# Altium footprint library eecs5x.PcbLib: 161 footprints (part 5 of 11)
Each footprint in its own frame and in the unit in brackets; x right, y up, seen from the top. Pads: shape width x height; smd on the part's side, far side on the other; paste and mask are expansions set on the pad; w line width, h text height; cw(c..) or ccw(c..) is an arc to the next point about the centre after c.
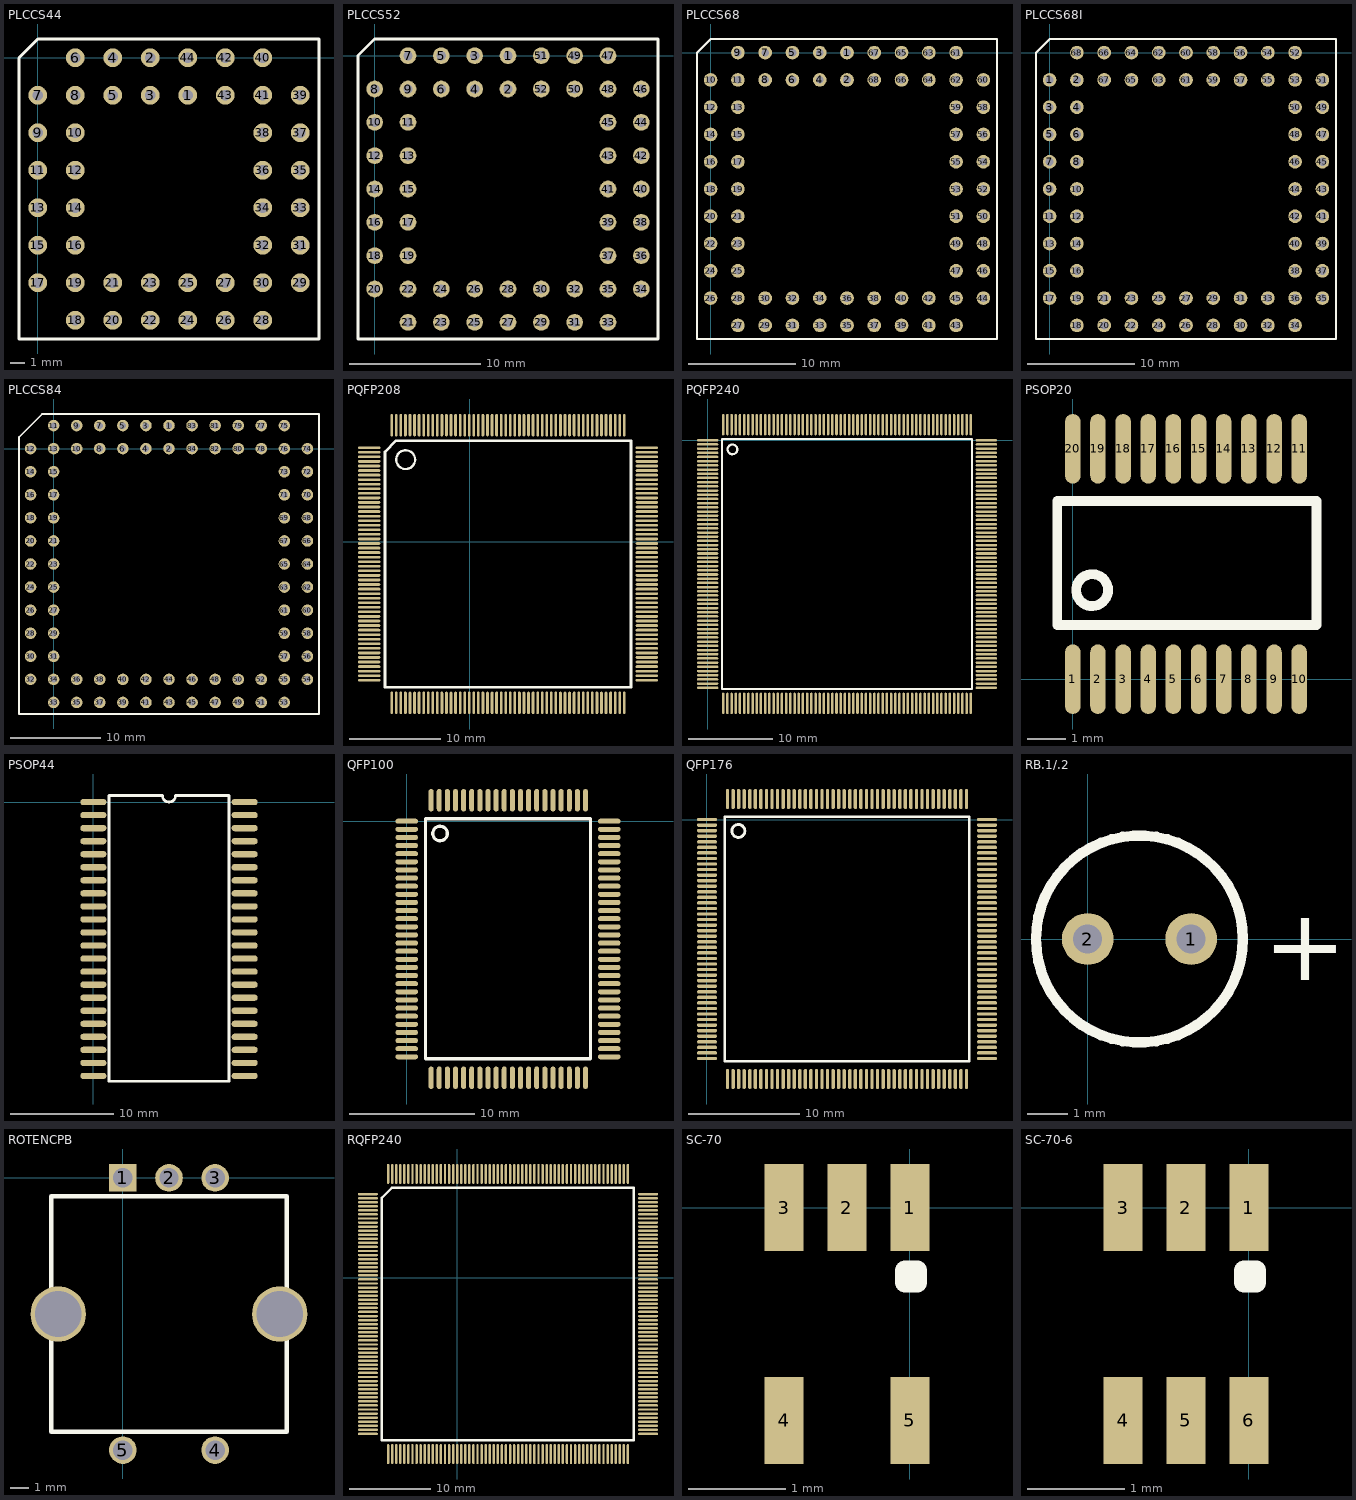
[diagram p4: the footprints below, top view; thin cyan lines are the x and y axes]

## PLCCS44 [mil]
pads (44):
  round 50 hole 28: 1(400,-100) 2(300,0) 3(300,-100) 4(200,0) 5(200,-100) 6(100,0) 7(0,-100) 8(100,-100) 9(0,-200) 10(100,-200) 11(0,-300) 12(100,-300) 13(0,-400) 14(100,-400) 15(0,-500) 16(100,-500) 17(0,-600) 18(100,-700) 19(100,-600) 20(200,-700) 21(200,-600) 22(300,-700) 23(300,-600) 24(400,-700) 25(400,-600) 26(500,-700) 27(500,-600) 28(600,-700) 29(700,-600) 30(600,-600) 31(700,-500) 32(600,-500) 33(700,-400) 34(600,-400) 35(700,-300) 36(600,-300) 37(700,-200) 38(600,-200) 39(700,-100) 40(600,0) 41(600,-100) 42(500,0) 43(500,-100) 44(400,0)
Top Overlay:
  lines w8: -50,-750 -50,0 0,50 750,50 750,-750 -50,-750

## PLCCS52 [mil]
pads (52):
  round 50 hole 28: 1(400,0) 2(400,-100) 3(300,0) 4(300,-100) 5(200,0) 6(200,-100) 7(100,0) 8(0,-100) 9(100,-100) 10(0,-200) 11(100,-200) 12(0,-300) 13(100,-300) 14(0,-400) 15(100,-400) 16(0,-500) 17(100,-500) 18(0,-600) 19(100,-600) 20(0,-700) 21(100,-800) 22(100,-700) 23(200,-800) 24(200,-700) 25(300,-800) 26(300,-700) 27(400,-800) 28(400,-700) 29(500,-800) 30(500,-700) 31(600,-800) 32(600,-700) 33(700,-800) 34(800,-700) 35(700,-700) 36(800,-600) 37(700,-600) 38(800,-500) 39(700,-500) 40(800,-400) 41(700,-400) 42(800,-300) 43(700,-300) 44(800,-200) 45(700,-200) 46(800,-100) 47(700,0) 48(700,-100) 49(600,0) 50(600,-100) 51(500,0) 52(500,-100)
Top Overlay:
  lines w8: -50,-850 -50,0 0,50 850,50 850,-850 -50,-850

## PLCCS68 [mil]
pads (68):
  round 50 hole 28: 1(500,0) 2(500,-100) 3(400,0) 4(400,-100) 5(300,0) 6(300,-100) 7(200,0) 8(200,-100) 9(100,0) 10(0,-100) 11(100,-100) 12(0,-200) 13(100,-200) 14(0,-300) 15(100,-300) 16(0,-400) 17(100,-400) 18(0,-500) 19(100,-500) 20(0,-600) 21(100,-600) 22(0,-700) 23(100,-700) 24(0,-800) 25(100,-800) 26(0,-900) 27(100,-1000) 28(100,-900) 29(200,-1000) 30(200,-900) 31(300,-1000) 32(300,-900) 33(400,-1000) 34(400,-900) 35(500,-1000) 36(500,-900) 37(600,-1000) 38(600,-900) 39(700,-1000) 40(700,-900) 41(800,-1000) 42(800,-900) 43(900,-1000) 44(1000,-900) 45(900,-900) 46(1000,-800) 47(900,-800) 48(1000,-700) 49(900,-700) 50(1000,-600) 51(900,-600) 52(1000,-500) 53(900,-500) 54(1000,-400) 55(900,-400) 56(1000,-300) 57(900,-300) 58(1000,-200) 59(900,-200) 60(1000,-100) 61(900,0) 62(900,-100) 63(800,0) 64(800,-100) 65(700,0) 66(700,-100) 67(600,0) 68(600,-100)
Top Overlay:
  lines w8: -50,-1050 -50,-1010 -50,0 0,50 1050,50 1050,-1050 -50,-1050

## PLCCS68I [mil]
pads (68):
  round 50 hole 30: 1(0,-100) 2(100,-100) 3(0,-200) 4(100,-200) 5(0,-300) 6(100,-300) 7(0,-400) 8(100,-400) 9(0,-500) 10(100,-500) 11(0,-600) 12(100,-600) 13(0,-700) 14(100,-700) 15(0,-800) 16(100,-800) 17(0,-900) 18(100,-1000) 19(100,-900) 20(200,-1000) 21(200,-900) 22(300,-1000) 23(300,-900) 24(400,-1000) 25(400,-900) 26(500,-1000) 27(500,-900) 28(600,-1000) 29(600,-900) 30(700,-1000) 31(700,-900) 32(800,-1000) 33(800,-900) 34(900,-1000) 35(1000,-900) 36(900,-900) 37(1000,-800) 38(900,-800) 39(1000,-700) 40(900,-700) 41(1000,-600) 42(900,-600) 43(1000,-500) 44(900,-500) 45(1000,-400) 46(900,-400) 47(1000,-300) 48(900,-300) 49(1000,-200) 50(900,-200) 51(1000,-100) 52(900,0) 53(900,-100) 54(800,0) 55(800,-100) 56(700,0) 57(700,-100) 58(600,0) 59(600,-100) 60(500,0) 61(500,-100) 62(400,0) 63(400,-100) 64(300,0) 65(300,-100) 66(200,0) 67(200,-100) 68(100,0)
Top Overlay:
  lines w8: -50,-1050 -50,-1010 -50,0 0,50 1050,50 1050,-1050 -50,-1050

## PLCCS84 [mil]
pads (84):
  round 50 hole 28: 1(500,100) 2(500,0) 3(400,100) 4(400,0) 5(300,100) 6(300,0) 7(200,100) 8(200,0) 9(100,100) 10(100,0) 11(0,100) 12(-100,0) 13(0,0) 14(-100,-100) 15(0,-100) 16(-100,-200) 17(0,-200) 18(-100,-300) 19(0,-300) 20(-100,-400) 21(0,-400) 22(-100,-500) 23(0,-500) 24(-100,-600) 25(0,-600) 26(-100,-700) 27(0,-700) 28(-100,-800) 29(0,-800) 30(-100,-900) 31(0,-900) 32(-100,-1000) 33(0,-1100) 34(0,-1000) 35(100,-1100) 36(100,-1000) 37(200,-1100) 38(200,-1000) 39(300,-1100) 40(300,-1000) 41(400,-1100) 42(400,-1000) 43(500,-1100) 44(500,-1000) 45(600,-1100) 46(600,-1000) 47(700,-1100) 48(700,-1000) 49(800,-1100) 50(800,-1000) 51(900,-1100) 52(900,-1000) 53(1000,-1100) 54(1100,-1000) 55(1000,-1000) 56(1100,-900) 57(1000,-900) 58(1100,-800) 59(1000,-800) 60(1100,-700) 61(1000,-700) 62(1100,-600) 63(1000,-600) 64(1100,-500) 65(1000,-500) 66(1100,-400) 67(1000,-400) 68(1100,-300) 69(1000,-300) 70(1100,-200) 71(1000,-200) 72(1100,-100) 73(1000,-100) 74(1100,0) 75(1000,100) 76(1000,0) 77(900,100) 78(900,0) 79(800,100) 80(800,0) 81(700,100) 82(700,0) 83(600,100) 84(600,0)
Top Overlay:
  lines w8: -150,-1150 -150,50 -50,150 1150,150 1150,-1150 -150,-1150

## PQFP208 [mm]
pads (208):
  oval 2.45x0.3 smd: 1(-11.004,10.307) 2(-11.004,9.807) 3(-11.004,9.307) 4(-11.004,8.807) 5(-11.004,8.307) 6(-11.004,7.807) 7(-11.004,7.307) 8(-11.004,6.807) 9(-11.004,6.307) 10(-11.004,5.807) 11(-11.004,5.307) 12(-11.004,4.807) 13(-11.004,4.307) 14(-11.004,3.807) 15(-11.004,3.307) 16(-11.004,2.807) 17(-11.004,2.307) 18(-11.004,1.807) 19(-11.004,1.307) 20(-11.004,0.807) 21(-11.004,0.307) 22(-11.004,-0.193) 23(-11.004,-0.693) 24(-11.004,-1.193) 25(-11.004,-1.693) 26(-11.004,-2.193) 27(-11.004,-2.693) 28(-11.004,-3.193) 29(-11.004,-3.693) 30(-11.004,-4.193) 31(-11.004,-4.693) 32(-11.004,-5.193) 33(-11.004,-5.693) 34(-11.004,-6.193) 35(-11.004,-6.693) 36(-11.004,-7.193) 37(-11.004,-7.693) 38(-11.004,-8.193) 39(-11.004,-8.693) 40(-11.004,-9.193) 41(-11.004,-9.693) 42(-11.004,-10.193) 43(-11.004,-10.693) 44(-11.004,-11.193) 45(-11.004,-11.693) 46(-11.004,-12.193) 47(-11.004,-12.693) 48(-11.004,-13.193) 49(-11.004,-13.693) 50(-11.004,-14.193) 51(-11.004,-14.693) 52(-11.004,-15.193) 105(19.446,-15.193) 106(19.446,-14.693) 107(19.446,-14.193) 108(19.446,-13.693) 109(19.446,-13.193) 110(19.446,-12.693) 111(19.446,-12.193) 112(19.446,-11.693) 113(19.446,-11.193) 114(19.446,-10.693) 115(19.446,-10.193) 116(19.446,-9.693) 117(19.446,-9.193) 118(19.446,-8.693) 119(19.446,-8.193) 120(19.446,-7.693) 121(19.446,-7.193) 122(19.446,-6.693) 123(19.446,-6.193) 124(19.446,-5.693) 125(19.446,-5.193) 126(19.446,-4.693) 127(19.446,-4.193) 128(19.446,-3.693) 129(19.446,-3.193) 130(19.446,-2.693) 131(19.446,-2.193) 132(19.446,-1.693) 133(19.446,-1.193) 134(19.446,-0.693) 135(19.446,-0.193) 136(19.446,0.307) 137(19.446,0.807) 138(19.446,1.307) 139(19.446,1.807) 140(19.446,2.307) 141(19.446,2.807) 142(19.446,3.307) 143(19.446,3.807) 144(19.446,4.307) 145(19.446,4.807) 146(19.446,5.307) 147(19.446,5.807) 148(19.446,6.307) 149(19.446,6.807) 150(19.446,7.307) 151(19.446,7.807) 152(19.446,8.307) 153(19.446,8.807) 154(19.446,9.307) 155(19.446,9.807) 156(19.446,10.307)
  oval 0.3x2.45 smd: 53(-8.529,-17.668) 54(-8.029,-17.668) 55(-7.529,-17.668) 56(-7.029,-17.668) 57(-6.529,-17.668) 58(-6.029,-17.668) 59(-5.529,-17.668) 60(-5.029,-17.668) 61(-4.529,-17.668) 62(-4.029,-17.668) 63(-3.529,-17.668) 64(-3.029,-17.668) 65(-2.529,-17.668) 66(-2.029,-17.668) 67(-1.529,-17.668) 68(-1.029,-17.668) 69(-0.529,-17.668) 70(-0.029,-17.668) 71(0.471,-17.668) 72(0.971,-17.668) 73(1.471,-17.668) 74(1.971,-17.668) 75(2.471,-17.668) 76(2.971,-17.668) 77(3.471,-17.668) 78(3.971,-17.668) 79(4.471,-17.668) 80(4.971,-17.668) 81(5.471,-17.668) 82(5.971,-17.668) 83(6.471,-17.668) 84(6.971,-17.668) 85(7.471,-17.668) 86(7.971,-17.668) 87(8.471,-17.668) 88(8.971,-17.668) 89(9.471,-17.668) 90(9.971,-17.668) 91(10.471,-17.668) 92(10.971,-17.668) 93(11.471,-17.668) 94(11.971,-17.668) 95(12.471,-17.668) 96(12.971,-17.668) 97(13.471,-17.668) 98(13.971,-17.668) 99(14.471,-17.668) 100(14.971,-17.668) 101(15.471,-17.668) 102(15.971,-17.668) 103(16.471,-17.668) 104(16.971,-17.668) 157(16.971,12.782) 158(16.471,12.782) 159(15.971,12.782) 160(15.471,12.782) 161(14.971,12.782) 162(14.471,12.782) 163(13.971,12.782) 164(13.471,12.782) 165(12.971,12.782) 166(12.471,12.782) 167(11.971,12.782) 168(11.471,12.782) 169(10.971,12.782) 170(10.471,12.782) 171(9.971,12.782) 172(9.471,12.782) 173(8.971,12.782) 174(8.471,12.782) 175(7.971,12.782) 176(7.471,12.782) 177(6.971,12.782) 178(6.471,12.782) 179(5.971,12.782) 180(5.471,12.782) 181(4.971,12.782) 182(4.471,12.782) 183(3.971,12.782) 184(3.471,12.782) 185(2.971,12.782) 186(2.471,12.782) 187(1.971,12.782) 188(1.471,12.782) 189(0.971,12.782) 190(0.471,12.782) 191(-0.029,12.782) 192(-0.529,12.782) 193(-1.029,12.782) 194(-1.529,12.782) 195(-2.029,12.782) 196(-2.529,12.782) 197(-3.029,12.782) 198(-3.529,12.782) 199(-4.029,12.782) 200(-4.529,12.782) 201(-5.029,12.782) 202(-5.529,12.782) 203(-6.029,12.782) 204(-6.529,12.782) 205(-7.029,12.782) 206(-7.529,12.782) 207(-8.029,12.782) 208(-8.529,12.782)
Top Overlay:
  circle w0.254: c-7,9 r1.033
  lines w0.305: -8.079,11.082 17.696,11.082 17.696,-15.968 -9.279,-15.968 -9.279,9.857 -8.054,11.082

## PQFP240 [mm]
pads (240):
  oval 2.54x0.3 smd: 1(0,0) 2(0,-0.5) 3(0,-1) 4(0,-1.5) 5(0,-2) 6(0,-2.5) 7(0,-3) 8(0,-3.5) 9(0,-4) 10(0,-4.5) 11(0,-5) 12(0,-5.5) 13(0,-6) 14(0,-6.5) 15(0,-7) 16(0,-7.5) 17(0,-8) 18(0,-8.5) 19(0,-9) 20(0,-9.5) 21(0,-10) 22(0,-10.5) 23(0,-11) 24(0,-11.5) 25(0,-12) 26(0,-12.5) 27(0,-13) 28(0,-13.5) 29(0,-14) 30(0,-14.5) 31(0,-15) 32(0,-15.5) 33(0,-16) 34(0,-16.5) 35(0,-17) 36(0,-17.5) 37(0,-18) 38(0,-18.5) 39(0,-19) 40(0,-19.5) 41(0,-20) 42(0,-20.5) 43(0,-21) 44(0,-21.5) 45(0,-22) 46(0,-22.5) 47(0,-23) 48(0,-23.5) 49(0,-24) 50(0,-24.5) 51(0,-25) 52(0,-25.5) 53(0,-26) 54(0,-26.5) 55(0,-27) 56(0,-27.5) 57(0,-28) 58(0,-28.5) 59(0,-29) 60(0,-29.5) 121(33.2,-29.5) 122(33.2,-29) 123(33.2,-28.5) 124(33.2,-28) 125(33.2,-27.5) 126(33.2,-27) 127(33.2,-26.5) 128(33.2,-26) 129(33.2,-25.5) 130(33.2,-25) 131(33.2,-24.5) 132(33.2,-24) 133(33.2,-23.5) 134(33.2,-23) 135(33.2,-22.5) 136(33.2,-22) 137(33.2,-21.5) 138(33.2,-21) 139(33.2,-20.5) 140(33.2,-20) 141(33.2,-19.5) 142(33.2,-19) 143(33.2,-18.5) 144(33.2,-18) 145(33.2,-17.5) 146(33.2,-17) 147(33.2,-16.5) 148(33.2,-16) 149(33.2,-15.5) 150(33.2,-15) 151(33.2,-14.5) 152(33.2,-14) 153(33.2,-13.5) 154(33.2,-13) 155(33.2,-12.5) 156(33.2,-12) 157(33.2,-11.5) 158(33.2,-11) 159(33.2,-10.5) 160(33.2,-10) 161(33.2,-9.5) 162(33.2,-9) 163(33.2,-8.5) 164(33.2,-8) 165(33.2,-7.5) 166(33.2,-7) 167(33.2,-6.5) 168(33.2,-6) 169(33.2,-5.5) 170(33.2,-5) 171(33.2,-4.5) 172(33.2,-4) 173(33.2,-3.5) 174(33.2,-3) 175(33.2,-2.5) 176(33.2,-2) 177(33.2,-1.5) 178(33.2,-1) 179(33.2,-0.5) 180(33.2,0)
  oval 0.3x2.54 smd: 61(1.85,-31.35) 62(2.35,-31.35) 63(2.85,-31.35) 64(3.35,-31.35) 65(3.85,-31.35) 66(4.35,-31.35) 67(4.85,-31.35) 68(5.35,-31.35) 69(5.85,-31.35) 70(6.35,-31.35) 71(6.85,-31.35) 72(7.35,-31.35) 73(7.85,-31.35) 74(8.35,-31.35) 75(8.85,-31.35) 76(9.35,-31.35) 77(9.85,-31.35) 78(10.35,-31.35) 79(10.85,-31.35) 80(11.35,-31.35) 81(11.85,-31.35) 82(12.35,-31.35) 83(12.85,-31.35) 84(13.35,-31.35) 85(13.85,-31.35) 86(14.35,-31.35) 87(14.85,-31.35) 88(15.35,-31.35) 89(15.85,-31.35) 90(16.35,-31.35) 91(16.85,-31.35) 92(17.35,-31.35) 93(17.85,-31.35) 94(18.35,-31.35) 95(18.85,-31.35) 96(19.35,-31.35) 97(19.85,-31.35) 98(20.35,-31.35) 99(20.85,-31.35) 100(21.35,-31.35) 101(21.85,-31.35) 102(22.35,-31.35) 103(22.85,-31.35) 104(23.35,-31.35) 105(23.85,-31.35) 106(24.35,-31.35) 107(24.85,-31.35) 108(25.35,-31.35) 109(25.85,-31.35) 110(26.35,-31.35) 111(26.85,-31.35) 112(27.35,-31.35) 113(27.85,-31.35) 114(28.35,-31.35) 115(28.85,-31.35) 116(29.35,-31.35) 117(29.85,-31.35) 118(30.35,-31.35) 119(30.85,-31.35) 120(31.35,-31.35) 181(31.35,1.85) 182(30.85,1.85) 183(30.35,1.85) 184(29.85,1.85) 185(29.35,1.85) 186(28.85,1.85) 187(28.35,1.85) 188(27.85,1.85) 189(27.35,1.85) 190(26.85,1.85) 191(26.35,1.85) 192(25.85,1.85) 193(25.35,1.85) 194(24.85,1.85) 195(24.35,1.85) 196(23.85,1.85) 197(23.35,1.85) 198(22.85,1.85) 199(22.35,1.85) 200(21.85,1.85) 201(21.35,1.85) 202(20.85,1.85) 203(20.35,1.85) 204(19.85,1.85) 205(19.35,1.85) 206(18.85,1.85) 207(18.35,1.85) 208(17.85,1.85) 209(17.35,1.85) 210(16.85,1.85) 211(16.35,1.85) 212(15.85,1.85) 213(15.35,1.85) 214(14.85,1.85) 215(14.35,1.85) 216(13.85,1.85) 217(13.35,1.85) 218(12.85,1.85) 219(12.35,1.85) 220(11.85,1.85) 221(11.35,1.85) 222(10.85,1.85) 223(10.35,1.85) 224(9.85,1.85) 225(9.35,1.85) 226(8.85,1.85) 227(8.35,1.85) 228(7.85,1.85) 229(7.35,1.85) 230(6.85,1.85) 231(6.35,1.85) 232(5.85,1.85) 233(5.35,1.85) 234(4.85,1.85) 235(4.35,1.85) 236(3.85,1.85) 237(3.35,1.85) 238(2.85,1.85) 239(2.35,1.85) 240(1.85,1.85)
Top Overlay:
  circle w0.254: c2.95,-1.097 r0.583
  lines w0.254: 1.7,-29.625 1.7,0.15 31.5,0.15 31.5,-29.625 1.7,-29.625

## PSOP20 [mm]
pads (20):
  oval 0.4x1.8 smd: 1(0,0) 2(0.65,0) 3(1.3,0) 4(1.95,0) 5(2.6,0) 6(3.25,0) 7(3.9,0) 8(4.55,0) 9(5.2,0) 10(5.85,0) 11(5.85,5.95) 12(5.2,5.95) 13(4.55,5.95) 14(3.9,5.95) 15(3.25,5.95) 16(2.6,5.95) 17(1.95,5.95) 18(1.3,5.95) 19(0.65,5.95) 20(0,5.95)
Top Overlay:
  circle w0.254: c0.5,2.3 r0.412
  lines w0.254: -0.4,1.4 -0.4,4.6 6.3,4.6 6.3,1.4 -0.4,1.4

## PSOP44 [mil]
pads (44):
  oval 100x24 smd: 1(0,0) 2(0,-50) 3(0,-100) 4(0,-150) 5(0,-200) 6(0,-250) 7(0,-300) 8(0,-350) 9(0,-400) 10(0,-450) 11(0,-500) 12(0,-550) 13(0,-600) 14(0,-650) 15(0,-700) 16(0,-750) 17(0,-800) 18(0,-850) 19(0,-900) 20(0,-950) 21(0,-1000) 22(0,-1050) 23(580,-1050) 24(580,-1000) 25(580,-950) 26(580,-900) 27(580,-850) 28(580,-800) 29(580,-750) 30(580,-700) 31(580,-650) 32(580,-600) 33(580,-550) 34(580,-500) 35(580,-450) 36(580,-400) 37(580,-350) 38(580,-300) 39(580,-250) 40(580,-200) 41(580,-150) 42(580,-100) 43(580,-50) 44(580,0)
Top Overlay:
  lines w10: 60,-1070 60,25 265,25 ccw(c290,25) 315,25 520,25 520,-1070 60,-1070

## QFP100 [mm]
pads (100):
  oval 1.8x0.4 smd: 1(0,0) 2(0,-0.65) 3(0,-1.3) 4(0,-1.95) 5(0,-2.6) 6(0,-3.25) 7(0,-3.9) 8(0,-4.55) 9(0,-5.2) 10(0,-5.85) 11(0,-6.5) 12(0,-7.15) 13(0,-7.8) 14(0,-8.45) 15(0,-9.1) 16(0,-9.75) 17(0,-10.4) 18(0,-11.05) 19(0,-11.7) 20(0,-12.35) 21(0,-13) 22(0,-13.65) 23(0,-14.3) 24(0,-14.95) 25(0,-15.6) 26(0,-16.25) 27(0,-16.9) 28(0,-17.55) 29(0,-18.2) 30(0,-18.85) 51(16.2,-18.85) 52(16.2,-18.2) 53(16.2,-17.55) 54(16.2,-16.9) 55(16.2,-16.25) 56(16.2,-15.6) 57(16.2,-14.95) 58(16.2,-14.3) 59(16.2,-13.65) 60(16.2,-13) 61(16.2,-12.35) 62(16.2,-11.7) 63(16.2,-11.05) 64(16.2,-10.4) 65(16.2,-9.75) 66(16.2,-9.1) 67(16.2,-8.45) 68(16.2,-7.8) 69(16.2,-7.15) 70(16.2,-6.5) 71(16.2,-5.85) 72(16.2,-5.2) 73(16.2,-4.55) 74(16.2,-3.9) 75(16.2,-3.25) 76(16.2,-2.6) 77(16.2,-1.95) 78(16.2,-1.3) 79(16.2,-0.65) 80(16.2,0)
  oval 0.4x1.8 smd: 31(1.95,-20.525) 32(2.6,-20.525) 33(3.25,-20.525) 34(3.9,-20.525) 35(4.55,-20.525) 36(5.2,-20.525) 37(5.85,-20.525) 38(6.5,-20.525) 39(7.15,-20.525) 40(7.8,-20.525) 41(8.45,-20.525) 42(9.1,-20.525) 43(9.75,-20.525) 44(10.4,-20.525) 45(11.05,-20.525) 46(11.7,-20.525) 47(12.35,-20.525) 48(13,-20.525) 49(13.65,-20.525) 50(14.3,-20.525) 81(14.3,1.675) 82(13.65,1.675) 83(13,1.675) 84(12.35,1.675) 85(11.7,1.675) 86(11.05,1.675) 87(10.4,1.675) 88(9.75,1.675) 89(9.1,1.675) 90(8.45,1.675) 91(7.8,1.675) 92(7.15,1.675) 93(6.5,1.675) 94(5.85,1.675) 95(5.2,1.675) 96(4.55,1.675) 97(3.9,1.675) 98(3.25,1.675) 99(2.6,1.675) 100(1.95,1.675)
Top Overlay:
  circle w0.254: c2.66,-0.984 r0.583
  lines w0.254: 1.5,-19 1.5,0.2 14.7,0.2 14.7,-19 1.5,-19

## QFP176 [mm]
pads (176):
  oval 1.8x0.3 smd: 1(0,0) 2(0,-0.5) 3(0,-1) 4(0,-1.5) 5(0,-2) 6(0,-2.5) 7(0,-3) 8(0,-3.5) 9(0,-4) 10(0,-4.5) 11(0,-5) 12(0,-5.5) 13(0,-6) 14(0,-6.5) 15(0,-7) 16(0,-7.5) 17(0,-8) 18(0,-8.5) 19(0,-9) 20(0,-9.5) 21(0,-10) 22(0,-10.5) 23(0,-11) 24(0,-11.5) 25(0,-12) 26(0,-12.5) 27(0,-13) 28(0,-13.5) 29(0,-14) 30(0,-14.5) 31(0,-15) 32(0,-15.5) 33(0,-16) 34(0,-16.5) 35(0,-17) 36(0,-17.5) 37(0,-18) 38(0,-18.5) 39(0,-19) 40(0,-19.5) 41(0,-20) 42(0,-20.5) 43(0,-21) 44(0,-21.5) 89(25.2,-21.5) 90(25.2,-21) 91(25.2,-20.5) 92(25.2,-20) 93(25.2,-19.5) 94(25.2,-19) 95(25.2,-18.5) 96(25.2,-18) 97(25.2,-17.5) 98(25.2,-17) 99(25.2,-16.5) 100(25.2,-16) 101(25.2,-15.5) 102(25.2,-15) 103(25.2,-14.5) 104(25.2,-14) 105(25.2,-13.5) 106(25.2,-13) 107(25.2,-12.5) 108(25.2,-12) 109(25.2,-11.5) 110(25.2,-11) 111(25.2,-10.5) 112(25.2,-10) 113(25.2,-9.5) 114(25.2,-9) 115(25.2,-8.5) 116(25.2,-8) 117(25.2,-7.5) 118(25.2,-7) 119(25.2,-6.5) 120(25.2,-6) 121(25.2,-5.5) 122(25.2,-5) 123(25.2,-4.5) 124(25.2,-4) 125(25.2,-3.5) 126(25.2,-3) 127(25.2,-2.5) 128(25.2,-2) 129(25.2,-1.5) 130(25.2,-1) 131(25.2,-0.5) 132(25.2,0)
  oval 0.3x1.8 smd: 45(1.85,-23.35) 46(2.35,-23.35) 47(2.85,-23.35) 48(3.35,-23.35) 49(3.85,-23.35) 50(4.35,-23.35) 51(4.85,-23.35) 52(5.35,-23.35) 53(5.85,-23.35) 54(6.35,-23.35) 55(6.85,-23.35) 56(7.35,-23.35) 57(7.85,-23.35) 58(8.35,-23.35) 59(8.85,-23.35) 60(9.35,-23.35) 61(9.85,-23.35) 62(10.35,-23.35) 63(10.85,-23.35) 64(11.35,-23.35) 65(11.85,-23.35) 66(12.35,-23.35) 67(12.85,-23.35) 68(13.35,-23.35) 69(13.85,-23.35) 70(14.35,-23.35) 71(14.85,-23.35) 72(15.35,-23.35) 73(15.85,-23.35) 74(16.35,-23.35) 75(16.85,-23.35) 76(17.35,-23.35) 77(17.85,-23.35) 78(18.35,-23.35) 79(18.85,-23.35) 80(19.35,-23.35) 81(19.85,-23.35) 82(20.35,-23.35) 83(20.85,-23.35) 84(21.35,-23.35) 85(21.85,-23.35) 86(22.35,-23.35) 87(22.85,-23.35) 88(23.35,-23.35) 133(23.35,1.85) 134(22.85,1.85) 135(22.35,1.85) 136(21.85,1.85) 137(21.35,1.85) 138(20.85,1.85) 139(20.35,1.85) 140(19.85,1.85) 141(19.35,1.85) 142(18.85,1.85) 143(18.35,1.85) 144(17.85,1.85) 145(17.35,1.85) 146(16.85,1.85) 147(16.35,1.85) 148(15.85,1.85) 149(15.35,1.85) 150(14.85,1.85) 151(14.35,1.85) 152(13.85,1.85) 153(13.35,1.85) 154(12.85,1.85) 155(12.35,1.85) 156(11.85,1.85) 157(11.35,1.85) 158(10.85,1.85) 159(10.35,1.85) 160(9.85,1.85) 161(9.35,1.85) 162(8.85,1.85) 163(8.35,1.85) 164(7.85,1.85) 165(7.35,1.85) 166(6.85,1.85) 167(6.35,1.85) 168(5.85,1.85) 169(5.35,1.85) 170(4.85,1.85) 171(4.35,1.85) 172(3.85,1.85) 173(3.35,1.85) 174(2.85,1.85) 175(2.35,1.85) 176(1.85,1.85)
Top Overlay:
  circle w0.254: c2.825,-1.025 r0.583
  lines w0.254: 1.6,-21.75 1.6,0.225 23.6,0.25 23.6,-21.75 1.6,-21.75

## RB.1/.2 [mil]
pads (2):
  round 50 hole 28: 1(100,0) 2(0,0)
Top Overlay:
  circle w10: c50,0 r100
  text "+" at 170,-40 h70

## ROTENCPB [mil]
pads (7):
  rect 60x60 hole 42: 1(0,0)
  round 60 hole 42: 2(100,0) 3(200,0) 4(200,-590) 5(0,-590)
  round 120 hole 100: ""(-140,-295) ""(340,-295)
Top Overlay:
  lines w10: -155,-550 -155,-40 355,-40 355,-550 -155,-550

## RQFP240 [mm]
pads (240):
  oval 2.45x0.3 smd: 1(-11.004,10.307) 2(-11.004,9.807) 3(-11.004,9.307) 4(-11.004,8.807) 5(-11.004,8.307) 6(-11.004,7.807) 7(-11.004,7.307) 8(-11.004,6.807) 9(-11.004,6.307) 10(-11.004,5.807) 11(-11.004,5.307) 12(-11.004,4.807) 13(-11.004,4.307) 14(-11.004,3.807) 15(-11.004,3.307) 16(-11.004,2.807) 17(-11.004,2.307) 18(-11.004,1.807) 19(-11.004,1.307) 20(-11.004,0.807) 21(-11.004,0.307) 22(-11.004,-0.193) 23(-11.004,-0.693) 24(-11.004,-1.193) 25(-11.004,-1.693) 26(-11.004,-2.193) 27(-11.004,-2.693) 28(-11.004,-3.193) 29(-11.004,-3.693) 30(-11.004,-4.193) 31(-11.004,-4.693) 32(-11.004,-5.193) 33(-11.004,-5.693) 34(-11.004,-6.193) 35(-11.004,-6.693) 36(-11.004,-7.193) 37(-11.004,-7.693) 38(-11.004,-8.193) 39(-11.004,-8.693) 40(-11.004,-9.193) 41(-11.004,-9.693) 42(-11.004,-10.193) 43(-11.004,-10.693) 44(-11.004,-11.193) 45(-11.004,-11.693) 46(-11.004,-12.193) 47(-11.004,-12.693) 48(-11.004,-13.193) 49(-11.004,-13.693) 50(-11.004,-14.193) 51(-11.004,-14.693) 52(-11.004,-15.193) 53(-11.004,-15.693) 54(-11.004,-16.193) 55(-11.004,-16.693) 56(-11.004,-17.193) 57(-11.004,-17.693) 58(-11.004,-18.193) 59(-11.004,-18.693) 60(-11.004,-19.193) 121(23.446,-19.193) 122(23.446,-18.693) 123(23.446,-18.193) 124(23.446,-17.693) 125(23.446,-17.193) 126(23.446,-16.693) 127(23.446,-16.193) 128(23.446,-15.693) 129(23.446,-15.193) 130(23.446,-14.693) 131(23.446,-14.193) 132(23.446,-13.693) 133(23.446,-13.193) 134(23.446,-12.693) 135(23.446,-12.193) 136(23.446,-11.693) 137(23.446,-11.193) 138(23.446,-10.693) 139(23.446,-10.193) 140(23.446,-9.693) 141(23.446,-9.193) 142(23.446,-8.693) 143(23.446,-8.193) 144(23.446,-7.693) 145(23.446,-7.193) 146(23.446,-6.693) 147(23.446,-6.193) 148(23.446,-5.693) 149(23.446,-5.193) 150(23.446,-4.693) 151(23.446,-4.193) 152(23.446,-3.693) 153(23.446,-3.193) 154(23.446,-2.693) 155(23.446,-2.193) 156(23.446,-1.693) 157(23.446,-1.193) 158(23.446,-0.693) 159(23.446,-0.193) 160(23.446,0.307) 161(23.446,0.807) 162(23.446,1.307) 163(23.446,1.807) 164(23.446,2.307) 165(23.446,2.807) 166(23.446,3.307) 167(23.446,3.807) 168(23.446,4.307) 169(23.446,4.807) 170(23.446,5.307) 171(23.446,5.807) 172(23.446,6.307) 173(23.446,6.807) 174(23.446,7.307) 175(23.446,7.807) 176(23.446,8.307) 177(23.446,8.807) 178(23.446,9.307) 179(23.446,9.807) 180(23.446,10.307)
  oval 0.3x2.45 smd: 61(-8.529,-21.668) 62(-8.029,-21.668) 63(-7.529,-21.668) 64(-7.029,-21.668) 65(-6.529,-21.668) 66(-6.029,-21.668) 67(-5.529,-21.668) 68(-5.029,-21.668) 69(-4.529,-21.668) 70(-4.029,-21.668) 71(-3.529,-21.668) 72(-3.029,-21.668) 73(-2.529,-21.668) 74(-2.029,-21.668) 75(-1.529,-21.668) 76(-1.029,-21.668) 77(-0.529,-21.668) 78(-0.029,-21.668) 79(0.471,-21.668) 80(0.971,-21.668) 81(1.471,-21.668) 82(1.971,-21.668) 83(2.471,-21.668) 84(2.971,-21.668) 85(3.471,-21.668) 86(3.971,-21.668) 87(4.471,-21.668) 88(4.971,-21.668) 89(5.471,-21.668) 90(5.971,-21.668) 91(6.471,-21.668) 92(6.971,-21.668) 93(7.471,-21.668) 94(7.971,-21.668) 95(8.471,-21.668) 96(8.971,-21.668) 97(9.471,-21.668) 98(9.971,-21.668) 99(10.471,-21.668) 100(10.971,-21.668) 101(11.471,-21.668) 102(11.971,-21.668) 103(12.471,-21.668) 104(12.971,-21.668) 105(13.471,-21.668) 106(13.971,-21.668) 107(14.471,-21.668) 108(14.971,-21.668) 109(15.471,-21.668) 110(15.971,-21.668) 111(16.471,-21.668) 112(16.971,-21.668) 113(17.471,-21.668) 114(17.971,-21.668) 115(18.471,-21.668) 116(18.971,-21.668) 117(19.471,-21.668) 118(19.971,-21.668) 119(20.471,-21.668) 120(20.971,-21.668) 181(20.971,12.782) 182(20.471,12.782) 183(19.971,12.782) 184(19.471,12.782) 185(18.971,12.782) 186(18.471,12.782) 187(17.971,12.782) 188(17.471,12.782) 189(16.971,12.782) 190(16.471,12.782) 191(15.971,12.782) 192(15.471,12.782) 193(14.971,12.782) 194(14.471,12.782) 195(13.971,12.782) 196(13.471,12.782) 197(12.971,12.782) 198(12.471,12.782) 199(11.971,12.782) 200(11.471,12.782) 201(10.971,12.782) 202(10.471,12.782) 203(9.971,12.782) 204(9.471,12.782) 205(8.971,12.782) 206(8.471,12.782) 207(7.971,12.782) 208(7.471,12.782) 209(6.971,12.782) 210(6.471,12.782) 211(5.971,12.782) 212(5.471,12.782) 213(4.971,12.782) 214(4.471,12.782) 215(3.971,12.782) 216(3.471,12.782) 217(2.971,12.782) 218(2.471,12.782) 219(1.971,12.782) 220(1.471,12.782) 221(0.971,12.782) 222(0.471,12.782) 223(-0.029,12.782) 224(-0.529,12.782) 225(-1.029,12.782) 226(-1.529,12.782) 227(-2.029,12.782) 228(-2.529,12.782) 229(-3.029,12.782) 230(-3.529,12.782) 231(-4.029,12.782) 232(-4.529,12.782) 233(-5.029,12.782) 234(-5.529,12.782) 235(-6.029,12.782) 236(-6.529,12.782) 237(-7.029,12.782) 238(-7.529,12.782) 239(-8.029,12.782) 240(-8.529,12.782)
Top Overlay:
  lines w0.305: -8.079,11.082 21.646,11.082 21.696,11.082 21.696,-19.318 21.696,-19.968 -9.279,-19.968 -9.279,9.857 -8.054,11.082

## SC-70 [mm]
pads (5):
  rect 0.4x0.9 smd: 1(0,0) 2(-0.65,0) 3(-1.3,0) 4(-1.3,-2.2) 5(0,-2.2)
Top Overlay:
  lines w0.203: -0.05,-0.775 -0.05,-0.65 0.075,-0.65 0.075,-0.775 -0.05,-0.775

## SC-70-6 [mm]
pads (6):
  rect 0.4x0.9 smd: 1(0,0) 2(-0.65,0) 3(-1.3,0) 4(-1.3,-2.2) 5(-0.65,-2.2) 6(0,-2.2)
Top Overlay:
  lines w0.203: -0.05,-0.775 -0.05,-0.65 0.075,-0.65 0.075,-0.775 -0.05,-0.775